# Altium schematic symbol library Cell_Tester.SchLib: 30 symbols
Pins are listed as number, name and electrical type; pins without a type are passive.

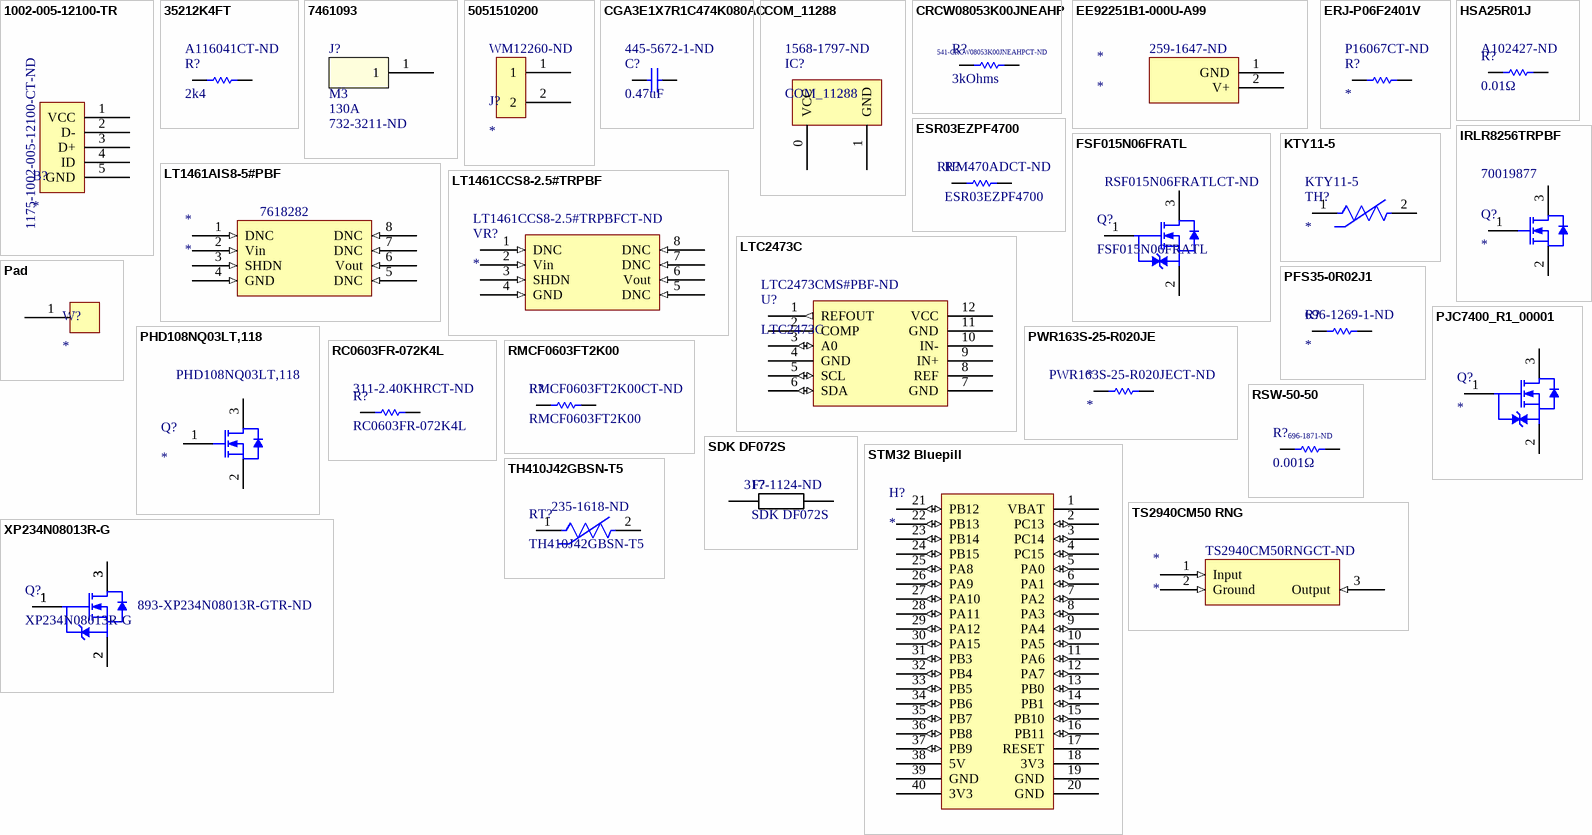
[diagram p0: symbols 1002-005-12100-TR to XP234N08013R-G]

## 1002-005-12100-TR
designator B?  Supplier Part Number 1: 1175-1002-005-12100-CT-ND
Manufacturer: CNC Tech; Manufacturer Part Number: 1002-005-12100-TR; Supplier 1: Digi-Key; RoHS: No; Stock 1: 2839; Pricing 1: 1=0.99000, 10=0.86700, 25=0.81600, 50=0.78200, 100=0.74800, 250=0.68000, 500=0.61200 (USD)
footprint 1002-005-12100-TR
pins: 1 VCC, 2 D-, 3 D+, 4 ID, 5 GND

## 35212K4FT
designator R?, comment 2k4  Supplier Part Number 1: A116041CT-ND
3521 2K4 1% 2W; Manufacturer: TE Connectivity; Manufacturer Part Number: 35212K4FT; Resistance: 2.4kR; Temperature Coefficient: 100ppm/°C; Voltage Rating: 250V; Number of Resistors: 1; Supplier 1: Digi-Key; RoHS: Yes; Category: Chip SMD Resistors; Stock 1: 8714; Pricing 1: 1=0.83000, 10=0.61200, 100=0.35610, 1000=0.19972 (USD); Mount: Surface Mount; Case/Package: 2512; Case Code (Metric): 6432; Case Code (Imperial): 2512; Min Operating Temperature: -55°C; Max Operating Temperature: 155°C; Tolerance: 1%; Packaging: Tape and Reel; Resistor Type: Thick Film,Power resistor; Number of Terminations: 2; Max Power Dissipation: 2W; Power Rating: 2W; Termination: Solder; Voltage Rating (DC): 250V; Features: Automotive AEC-Q200; Series: 3521, CGS; Resistance Tolerance: 1%; Technology: THICK FILM; Length: 6.3mm; Height: 0.55mm; Depth: 3.2mm; RoHS Compliant: Yes; REACH SVHC: No SVHC; ELV: Compliant; ComponentLink1URL: https://datasheet.ciiva.com/25610/0900766b81096b90-25610623.pdf?src-supplier=RSComponents; ComponentLink1Description: https://datasheet.ciiva.com/25610/0900766b81096b90-25610623.pdf?src-supplier=RSComponents; ComponentLink2URL: https://datasheet.ciiva.com/7823/1610601-7823197.pdf?src-supplier=Element14; ComponentLink2Description: https://datasheet.ciiva.com/7823/1610601-7823197.pdf?src-supplier=Element14; ComponentLink3URL: https://datasheet.ciiva.com/46413/1610601-46413085.pdf?src-supplier=Element14; ComponentLink3Description: https://datasheet.ciiva.com/46413/1610601-46413085.pdf?src-supplier=Element14
pins: 1, 2

## 7461093
designator J?  Screw Size: M3  Current Rating: 130A  Supplier Part Number 1: 732-3211-ND  (hidden comment: 7461093)
TERM PWR ELEMENT M3 9 PIN PCB; Manufacturer: Wurth Electronics Inc.; Manufacturer Part Number: 7461093; Terminal Type: Screw Terminal, Power Tap; Termination: Press-Fit; Number of Pins: 9; Mounting Type: Through Hole; Supplier 1: Digi-Key
footprint Wurth Electronics Inc. 7461093
pins: 1

## 5051510200
designator J?  Supplier Part Number 1: WM12260-ND
CONN RCPT HSG 2POS 2.00MM; Manufacturer: Molex; Manufacturer Part Number: 5051510200; Connector Type: Receptacle,Socket; Number of Positions: 2; Pitch: 0.079inch; Supplier 1: Digi-Key; RoHS: Yes; Category: Headers and Wire Housings; Stock 1: 171124; Pricing 1: 1=0.23000, 10=0.18600, 100=0.13400, 1000=0.10488, 2500=0.09614 (USD); Mount: Free Hanging; Color: Black; Packaging: Bulk; Number of Rows: 1; Termination: Crimp; Fastening Type: Latch; ComponentLink1URL: https://www.molex.com/pdm_docs/as/AS-505151-002.pdf?src-supplier=Digi-Key; ComponentLink1Description: https://www.molex.com/pdm_docs/as/AS-505151-002.pdf?src-supplier=Digi-Key
pins: 1, 2

## CGA3E1X7R1C474K080AC
designator C?, comment 0.47uF  Supplier Part Number 1: 445-5672-1-ND
Cap Ceramic 0.47uF 16V X7R 10% SMD 0603 125°C Paper/ Plastic T/R; Manufacturer: TDK; Manufacturer Part Number: CGA3E1X7R1C474K080AC; Capacitance: 470nF; Supplier 1: Digi-Key; RoHS: Yes; Category: Ceramic Capacitors; Stock 1: 205813; Pricing 1: 1=0.16000, 10=0.11200, 50=0.06360, 100=0.05260, 500=0.03690, 1000=0.03055 (USD); Mount: Surface Mount; Case/Package: 0603; Case Code (Metric): 1608; Case Code (Imperial): 0603; Weight: 7.1E-05oz; Min Operating Temperature: -55°C; Max Operating Temperature: 125°C; Tolerance: 10%; Dielectric: X7R; Packaging: Tape and Reel; Voltage Rating: 16V; Voltage Rating (DC): 16V; Termination: SMD/SMT; Series: CGA; Package Quantity: 1; Resistor Type: Ceramic; Construction: Flat; Length: 1.6mm; Width: 0.031inch; Height: 0.8mm; Thickness: 0.035inch; Depth: 0.8mm; Ratings: AEC-Q200; Radiation Hardening: No; Lead Free: Lead Free; RoHS Compliant: Yes; REACH SVHC: No SVHC; ComponentLink1URL: https://datasheet.ciiva.com/24218/cga3e1x7r1c474k080ac-265756-24218393.pdf?src-supplier=Mouser; ComponentLink1Description: https://datasheet.ciiva.com/24218/cga3e1x7r1c474k080ac-265756-24218393.pdf?src-supplier=Mouser
pins: 1, 2

## COM_11288
designator IC?  Supplier Part Number 1: 1568-1797-ND
Heating Pad 5VDC 750MA 5X10CM; Manufacturer: SparkFun; Manufacturer Part Number: COM-11288; Supplier 1: Digi-Key; RoHS: No; Stock 1: 135; Pricing 1: 1=3.95000 (USD); ComponentLink1URL: https://media.digikey.com/pdf/Data%20Sheets/Sparkfun%20PDFs/COM-11288_Web.pdf?src-supplier=Digi-Key; ComponentLink1Description: https://media.digikey.com/pdf/Data%20Sheets/Sparkfun%20PDFs/COM-11288_Web.pdf?src-supplier=Digi-Key
footprint Heater
pins: 0 VCC, 1 GND

## CRCW08053K00JNEAHP
designator R?, comment 3kOhms  Supplier Part Number 1: 541-CRCW08053K00JNEAHPCT-ND
Res Thkflm 0805-HP 3K0 Ohm 5% 200 ET1 E3 SMD; Manufacturer: Vishay Dale; Manufacturer Part Number: CRCW08053K00JNEAHP; Resistance: 3kR; Max Power Dissipation: 500mW; Temperature Coefficient: 200ppm/°C; Supplier 1: Digi-Key; RoHS: Yes; Category: Chip SMD Resistors; Stock 1: 4037; Pricing 1: 1=0.24000, 10=0.20200, 100=0.07910, 1000=0.03312, 2500=0.03036 (USD); Case/Package: 0805; Min Operating Temperature: -55°C; Max Operating Temperature: 155°C; Package Quantity: 5000; Tolerance: 5%; Packaging: Tape and Reel; Resistor Type: Thick Film; Number of Terminations: 2; Features: Automotive AEC-Q200; Series: CRCW-HP; Length: 0.079inch; Width: 0.049inch; Height: 0.024inch; Lead Free: Lead Free; RoHS Compliant: Yes; ComponentLink1URL: https://datasheet.ciiva.com/2580/crcwhpe3-2580897.pdf?src-supplier=Digi-Key; ComponentLink1Description: https://datasheet.ciiva.com/2580/crcwhpe3-2580897.pdf?src-supplier=Digi-Key
footprint Model Name (Footprint not found)
pins: 1, 2

## EE92251B1-000U-A99
designator *  Supplier Part Number 1: 259-1647-ND
DC Fan Axial Ball Bearing 12V 51.5CFM 34dB 92 X 92 X 25mm High Speed; Manufacturer: Sunon; Manufacturer Part Number: EE92251B1-000U-A99; Current Rating: 165mA; Noise Level: ["34dBA"]; Noise: 34dBA; Power Consumption: 2W; Max Power Dissipation: 1.98W; RPM: 3000RPM; Life (Hours): 50000Hour; Approvals: UL,CE,TUV; Supplier 1: Digi-Key; RoHS: Yes; Category: Enclosures; Stock 1: 720; Pricing 1: 1=8.05000, 10=7.68700, 25=7.22880, 50=6.95440, 100=6.40540, 250=5.99364, 500=5.90214 (USD); Case/Package: Axial; Weight: 0.207lb; Material: Plastic; Housing Material: Thermoplastic; Min Operating Temperature: 14°C; Max Operating Temperature: 158°C; Package Quantity: 30; Airflow: 51.5CFM; Termination: 2 Wire Leads; Bearing Type: Ball; Series: DR MagLev®; Noise (dB): 34dB; Width: 25mm; Lead Free: Lead Free; Flammability Rating: UL94 V-0; ComponentLink1URL: https://datasheet.ciiva.com/18514/ee9225-u-18514966.pdf?src-supplier=Digi-Key; ComponentLink1Description: https://datasheet.ciiva.com/18514/ee9225-u-18514966.pdf?src-supplier=Digi-Key; ComponentLink2URL: https://datasheet.ciiva.com/3339/me9225-eng-tds-3339837.pdf?src-supplier=Distrelec; ComponentLink2Description: https://datasheet.ciiva.com/3339/me9225-eng-tds-3339837.pdf?src-supplier=Distrelec
pins: 1 GND, 2 V+

## ERJ-P06F2401V
designator R?  Supplier Part Number 1: P16067CT-ND
PANASONIC   ERJP06F2401V   RESISTOR, ERJP, 2.4 KOHM, 0805 0.5W, 1%; Manufacturer Part Number: ERJ-P06F2401V; Power Rating: 500mW; Resistance: 2.4kR; Voltage Rating: 150V; Temperature Coefficient: 100ppm/°C; Supplier 1: Digi-Key; Manufacturer: Panasonic; RoHS: Yes; Category: Chip SMD Resistors; Stock 1: 27280; Pricing 1: 1=0.18000, 10=0.15400, 100=0.06030, 1000=0.02525, 2500=0.02315 (USD); Mount: Surface Mount; Case/Package: 0805; Number of Pins: 2; Case Code (Imperial): 0805; Case Code (Metric): 2012; Min Operating Temperature: -55°C; Max Operating Temperature: 155°C; Tolerance: 1%; Packaging: Tape and Reel; Package Quantity: 5000; Resistor Type: Thick Film; Voltage Rating (DC): 150V; Termination: Tab; Length: 2mm; Width: 1.2mm; Height: 0.6mm; Depth: 1.25mm; REACH SVHC: No SVHC; Military Standard: Not; Lead Free: Lead Free; RoHS Compliant: Yes; ComponentLink1URL: https://datasheet.ciiva.com/11812/0900766b812cb812-11812400.pdf?src-supplier=RSComponents; ComponentLink1Description: https://datasheet.ciiva.com/11812/0900766b812cb812-11812400.pdf?src-supplier=RSComponents; ComponentLink2URL: https://datasheet.ciiva.com/24025/aoa0000ce4-64075-24025445.pdf?src-supplier=Mouser; ComponentLink2Description: https://datasheet.ciiva.com/24025/aoa0000ce4-64075-24025445.pdf?src-supplier=Mouser; ComponentLink3URL: https://datasheet.ciiva.com/7891/1801181-7891421.pdf?src-supplier=Element14; ComponentLink3Description: https://datasheet.ciiva.com/7891/1801181-7891421.pdf?src-supplier=Element14; ComponentLink4URL: https://datasheet.ciiva.com/22699/1801181-22699117.pdf?src-supplier=Element14; ComponentLink4Description: https://datasheet.ciiva.com/22699/1801181-22699117.pdf?src-supplier=Element14
pins: 1, 2

## ESR03EZPF4700
designator R?  Supplier Part Number 1: RHM470ADCT-ND
Res Thick Film 0603 470 Ohm 1% 1/4W ±100ppm/°C Molded SMD SMD Paper T/R; Manufacturer: Rohm; Resistance: 470Ω; Power Rating: 250mW; Supplier 1: Digi-Key; Manufacturer Part Number: ESR03EZPF4700; RoHS: Yes; Category: Chip SMD Resistors; Stock 1: 2394; Pricing 1: 1=0.13000, 10=0.12000, 100=0.04600, 1000=0.02024, 2500=0.01748 (USD); Case/Package: 0603; Case Code (Metric): 1608; Case Code (Imperial): 0603; Size Code: 0603; Min Operating Temperature: -55°C; Max Operating Temperature: 155°C; Tolerance: 1%; Packaging: Tape and Reel; Resistor Type: Thick Film; Temperature Coefficient: 100ppm/°C; Package Quantity: 1; Number of Terminations: 2; Max Power Dissipation: 250mW; Features: Automotive AEC-Q200; Series: ESR; Length: 0.063inch; Width: 0.031inch; Height: 0.022inch; Lead Free: Lead Free; RoHS Compliant: Yes; ComponentLink1URL: https://datasheet.ciiva.com/2516/esr-2516130.pdf?src-supplier=Digi-Key; ComponentLink1Description: https://datasheet.ciiva.com/2516/esr-2516130.pdf?src-supplier=Digi-Key; ComponentLink2URL: https://datasheet.ciiva.com/2516/esr-2516131.pdf?src-supplier=Digi-Key; ComponentLink2Description: https://datasheet.ciiva.com/2516/esr-2516131.pdf?src-supplier=Digi-Key; ComponentLink3URL: https://datasheet.ciiva.com/2516/esr-2516132.pdf?src-supplier=Digi-Key; ComponentLink3Description: https://datasheet.ciiva.com/2516/esr-2516132.pdf?src-supplier=Digi-Key; ComponentLink4URL: https://datasheet.ciiva.com/16439/esr-16439978.pdf?src-supplier=Future+Electronics; ComponentLink4Description: https://datasheet.ciiva.com/16439/esr-16439978.pdf?src-supplier=Future+Electronics
pins: 1, 2

## FSF015N06FRATL
designator Q?  Supplier Part Number 1: RSF015N06FRATLCT-ND
Transistor Mosfet N-ch 60V 1.5A 3-PIN Tumt T/r; Manufacturer: Rohm; Manufacturer Part Number: RSF015N06FRATL; Rds On Max: 290mR; Input Capacitance: 110pF; Max Power Dissipation: 800mW; Supplier 1: Digi-Key; RoHS: Yes; Category: MOSFETs; Stock 1: 1795; Pricing 1: 1=0.38000, 10=0.31000, 100=0.21120, 500=0.15840, 1000=0.11880 (USD); Mount: Surface Mount; Case/Package: SMD/SMT; Packaging: Tape and Reel; Drain to Source Voltage (Vdss): 60V; Continuous Drain Current (ID): 1.5A; ComponentLink1URL: http://rohmfs.rohm.com/en/products/databook/datasheet/discrete/transistor/mosfet/rsf015n06fra-e.pdf?src-supplier=Digi-Key; ComponentLink1Description: http://rohmfs.rohm.com/en/products/databook/datasheet/discrete/transistor/mosfet/rsf015n06fra-e.pdf?src-supplier=Digi-Key
footprint RTF016N05FRATL
footprint RTF016N05FRATL
pins: 1 G, 2 S, 3 D

## HSA25R01J
designator R?, comment 0.01Ω  Supplier Part Number 1: A102427-ND
Res Wirewound 0.01 Ohm 5% 25W ±50ppm/C Aluminum Housed AXL Chassis Mount Loose/Tray; Manufacturer: TE Connectivity; Manufacturer Part Number: HSA25R01J; Resistance: 10mR; Temperature Coefficient: 50ppm/°C; Lead/Base Style: Fixed; Voltage Rating: 550V; Number of Resistors: 1; Voltage Rating (DC): 500V; Supplier 1: Digi-Key; RoHS: Yes; Category: Wirewound Resistors; Stock 1: 69; Pricing 1: 1=4.12000, 10=3.67600, 25=3.45520, 50=3.16120, 100=2.72010, 250=2.35256, 500=2.13200, 1000=1.95555 (USD); Mount: Chassis Mount; Case/Package: Aluminum; Housing Material: Aluminium; Min Operating Temperature: -55°C; Max Operating Temperature: 200°C; Tolerance: 5%; Power Rating: 25W; Resistor Type: Wirewound,Power resistor; Packaging: Tray; Package Quantity: 100; Series: HS, CGS; Max Power Dissipation: 25W; Termination: Solder; Number of Terminations: 2; Technology: WIRE WOUND; Length: 29mm; Width: 28mm; Height: 15mm; RoHS Compliant: Yes; ELV: Compliant; ComponentLink1URL: https://datasheet.ciiva.com/11805/0900766b80ef190c-11805473.pdf?src-supplier=RSComponents; ComponentLink1Description: https://datasheet.ciiva.com/11805/0900766b80ef190c-11805473.pdf?src-supplier=RSComponents; ComponentLink2URL: https://datasheet.ciiva.com/12694/eng-ds-1773035-c-12694934.pdf?src-supplier=Mouser; ComponentLink2Description: https://datasheet.ciiva.com/12694/eng-ds-1773035-c-12694934.pdf?src-supplier=Mouser
pins: 1, 2

## IRLR8256TRPBF
designator Q?  Supplier Part Number 1: 70019877
Single N-Channel 25 V 5.7 mOhm 15 nC HEXFET® Power Mosfet - TO-252-3; Manufacturer: International Rectifier; Manufacturer Part Number: IRLR8256TRPBF; Rise Time: 46ns; Continuous Drain Current (ID): 81A; Gate to Source Voltage (Vgs): 20V; Turn-On Delay Time: 9.7ns; Turn-Off Delay Time: 12ns; Fall Time: 8.5ns; Rds On Max: 5.7mR; Input Capacitance: 1.47nF; Drain to Source Breakdown Voltage: 25V; Drain to Source Resistance: 8.5mR; Power Dissipation: 63W; Supplier 1: Allied Electronics; RoHS: Yes; Category: MOSFETs; Mount: Surface Mount; Case/Package: TO-252-3; Number of Pins: 3; Min Operating Temperature: -55°C; Max Operating Temperature: 175°C; Packaging: Tape and Reel; Package Quantity: 1; Drain to Source Voltage (Vdss): 25V; Max Power Dissipation: 63W; Series: HEXFET®; Length: 6.73mm; Width: 6.22mm; Height: 2.39mm; Radiation Hardening: No; ComponentLink1URL: https://datasheet.ciiva.com/6382/irlr8256pbf-6382292.pdf?src-supplier=Digi-Key; ComponentLink1Description: https://datasheet.ciiva.com/6382/irlr8256pbf-6382292.pdf?src-supplier=Digi-Key; ComponentLink2URL: https://datasheet.ciiva.com/26791/irlr8256trpbf-26791913.pdf?src-supplier=IIIC; ComponentLink2Description: https://datasheet.ciiva.com/26791/irlr8256trpbf-26791913.pdf?src-supplier=IIIC; ComponentLink3URL: https://datasheet.ciiva.com/6382/irlr8256pbf-6382297.pdf?src-supplier=Digi-Key; ComponentLink3Description: https://datasheet.ciiva.com/6382/irlr8256pbf-6382297.pdf?src-supplier=Digi-Key; ComponentLink4URL: https://datasheet.ciiva.com/6382/irlr8256pbf-6382295.pdf?src-supplier=Digi-Key; ComponentLink4Description: https://datasheet.ciiva.com/6382/irlr8256pbf-6382295.pdf?src-supplier=Digi-Key; ComponentLink5URL: https://datasheet.ciiva.com/17318/irlr8256pbf-17318028.pdf?src-supplier=Avnet+Europe; ComponentLink5Description: https://datasheet.ciiva.com/17318/irlr8256pbf-17318028.pdf?src-supplier=Avnet+Europe
pins: 1 G, 2 S, 3 D

## KTY11-5
designator TH?  Supplier Part Number 1: KTY11-5
Temp Sensor Analog 2-Pin TO-92 Mini; Manufacturer: Infineon; Max Supply Voltage: 25V; Tolerance: 3%; Connector Type: Solder; Accuracy: 1%; Resistance: 1.97kR; Supplier 1: Avnet; Manufacturer Part Number: KTY11-5; RoHS: Yes; Category: Temperature and Humidity Sensors; Stock 1: 753257; Pricing 1: 1137=0.31884, 1200=0.30800, 2300=0.29920, 5700=0.29260, 12000=0.28160, 57000=0.27445, 120000=0.26730 (USD); Mount: Through Hole; Case/Package: TO-226-2; Number of Pins: 2; Min Operating Temperature: -50°C; Max Operating Temperature: 150°C; Output Type: Analog; Package Quantity: 1000; Packaging: Bulk; Resistance Tolerance: 3%; Lead Free: Lead Free; RoHS Compliant: Yes; ComponentLink1URL: https://datasheet.ciiva.com/26328/153667-da-01-en-temperatur-sensor-kty11-5-q62705-k0245-26328177.pdf?src-supplier=Conrad; ComponentLink1Description: https://datasheet.ciiva.com/26328/153667-da-01-en-temperatur-sensor-kty11-5-q62705-k0245-26328177.pdf?src-supplier=Conrad; ComponentLink2URL: https://datasheet.ciiva.com/2852/kt-kty-2852373.pdf?src-supplier=Digi-Key; ComponentLink2Description: https://datasheet.ciiva.com/2852/kt-kty-2852373.pdf?src-supplier=Digi-Key
pins: 1, 2

## LT1461AIS8-5#PBF
designator *  Supplier Part Number 1: 7618282
5.0V Micropower Precision Low Dropout Series Voltage Regulator SOIC-8; Manufacturer: Analog Devices / Linear Technology; Manufacturer Part Number: LT1461AIS8-5#PBF; Output Current: 100mA; Tolerance: 0.04%; Max Input Voltage: 20V; Output Voltage: 5V; Temperature Coefficient: 3ppm/°C; Quiescent Current: 50uA; Reference Type: Series,Fixed; Number of Channels: 1; Supplier 1: RSComponents; RoHS: Yes; Category: Voltage References; Stock 1: 1; Pricing 1: 1=11.46000, 5=10.90300, 25=9.11800, 50=8.89500 (USD); Mount: Surface Mount; Case/Package: SOIC; Number of Pins: 8; Min Operating Temperature: -40°C; Max Operating Temperature: 85°C; Package Quantity: 100; Packaging: Rail/Tube; Max Output Current: 100mA; Reference Voltage: 5V; Max Output Voltage: 5V; Series: -; Length: 5mm; Width: 3.988mm; Height: 1.498mm; Radiation Hardening: No; REACH SVHC: No SVHC; Lead Free: Lead Free; RoHS Compliant: Yes; ComponentLink1URL: https://datasheet.ciiva.com/19477/1736520-19477693.pdf?src-supplier=Jameco; ComponentLink1Description: https://datasheet.ciiva.com/19477/1736520-19477693.pdf?src-supplier=Jameco; ComponentLink2URL: https://datasheet.ciiva.com/26889/lt1461ais8-5-pbf-26889203.pdf?src-supplier=IIIC; ComponentLink2Description: https://datasheet.ciiva.com/26889/lt1461ais8-5-pbf-26889203.pdf?src-supplier=IIIC; ComponentLink3URL: https://datasheet.ciiva.com/5781/1599656-5781678.pdf?src-supplier=Farnell; ComponentLink3Description: https://datasheet.ciiva.com/5781/1599656-5781678.pdf?src-supplier=Farnell; ComponentLink4URL: https://datasheet.ciiva.com/2006/1342-2006103.pdf?src-supplier=Digi-Key; ComponentLink4Description: https://datasheet.ciiva.com/2006/1342-2006103.pdf?src-supplier=Digi-Key; ComponentLink5URL: https://datasheet.ciiva.com/15148/getdatasheetpartid-82019-15148493.pdf?src-supplier=Verical; ComponentLink5Description: https://datasheet.ciiva.com/15148/getdatasheetpartid-82019-15148493.pdf?src-supplier=Verical; ComponentLink6URL: https://datasheet.ciiva.com/1173/1599656-1173859.pdf?src-supplier=Element14; ComponentLink6Description: https://datasheet.ciiva.com/1173/1599656-1173859.pdf?src-supplier=Element14
pins: 1 DNC (in), 2 Vin (in), 3 SHDN (in), 4 GND (in), 5 DNC (in), 6 Vout (in), 7 DNC (in), 8 DNC (in)

## LT1461CCS8-2.5#TRPBF
designator VR?  Supplier Part Number 1: LT1461CCS8-2.5#TRPBFCT-ND
LT1461 - Micropower Precision Low Dropout Series Voltage Reference Family; Manufacturer: Analog Devices / Linear Technology; Manufacturer Part Number: LT1461CCS8-2.5#TRPBF; Tolerance: 0.08%; Min Output Voltage: 2.5V; Output Current: 100mA; Temperature Coefficient: 12ppm/°C; Operating Supply Current: 70uA; Quiescent Current: 50uA; Output Type: Fixed; Supplier 1: Digi-Key; RoHS: Yes; Category: Voltage References; Stock 1: 1; Pricing 1: 1=4.78000, 10=4.28900, 25=4.05440, 100=3.51390, 250=3.33368, 500=2.99132, 1000=2.80500 (USD); Mount: Surface Mount; Case/Package: SOIC; Min Operating Temperature: 0°C; Max Operating Temperature: 70°C; Package Quantity: 2500; Packaging: Tape and Reel; Output Voltage: 2.5V; Reference Type: Series; Series: -; Lead Free: Lead Free; RoHS Compliant: Yes; ComponentLink1URL: https://datasheet.ciiva.com/2010/1342-2010067.pdf?src-supplier=Digi-Key; ComponentLink1Description: https://datasheet.ciiva.com/2010/1342-2010067.pdf?src-supplier=Digi-Key
footprint LT1461CCS8-2.5#TRPBF
pins: 1 DNC (in), 2 Vin (in), 3 SHDN (in), 4 GND (in), 5 DNC (in), 6 Vout (in), 7 DNC (in), 8 DNC (in)

## LTC2473C
designator U?  Supplier Part Number 1: LTC2473CMS#PBF-ND
Dual ADC Delta-Sigma 1ksps 16-bit Serial 12-Pin MSOP; Manufacturer: Analog Devices / Linear Technology; Manufacturer Part Number: LTC2473CMS#PBF; Max Supply Voltage: 5.5V; Min Supply Voltage: 2.7V; Interface: I2C,Serial; Number of Bits: 16; Sampling Rate: 1KS/s; Number of Converters: 2; Resolution: 16b; Polarity: Bipolar; Integral Nonlinearity (INL): 12LSB; Supply Type: Single; Nominal Supply Current: 3.5mA; Reference Voltage: 1.25V; Supplier 1: Digi-Key; RoHS: Yes; Category: Analog to Digital Converters (ADCs); Stock 1: 461; Pricing 1: 1=4.55000, 10=4.08700, 25=3.86360, 100=3.34850, 250=3.17680, 500=2.85056, 1000=2.67300 (USD); Mount: Surface Mount; Case/Package: MSOP; Number of Pins: 12; Min Operating Temperature: 0°C; Max Operating Temperature: 70°C; Package Quantity: 37; Packaging: Rail/Tube; Number of Elements: 2; RoHS Compliant: Yes; REACH SVHC: No SVHC; ComponentLink1URL: https://datasheet.ciiva.com/14171/ltc2471-73-eng-ds-14171149.pdf?src-supplier=Distrelec; ComponentLink1Description: https://datasheet.ciiva.com/14171/ltc2471-73-eng-ds-14171149.pdf?src-supplier=Distrelec; ComponentLink2URL: https://datasheet.ciiva.com/46423/1814531-46423783.pdf?src-supplier=Element14; ComponentLink2Description: https://datasheet.ciiva.com/46423/1814531-46423783.pdf?src-supplier=Element14
footprint LTC2473
footprint LTC2473
pins: 1 REFOUT (out), 2 COMP, 3 A0 (io), 4 GND (power), 5 SCL (io), 6 SDA (io), 7 GND (power), 8 REF (power), 9 IN+ (power), 10 IN- (power), 11 GND (power), 12 VCC (power)

## Pad
designator W?
footprint Pad
pins: 1

## PFS35-0R02J1
designator R?  Supplier Part Number 1: 696-1269-1-ND
RES 0.02 OHM 35W 5% TO-263 SMD; Manufacturer: Riedon; Manufacturer Part Number: PFS35-0R02J1; Resistance: 20mR; Temperature Coefficient: 250ppm/°C; Supplier 1: Digi-Key; RoHS: Yes; Category: Chip SMD Resistors; Stock 1: 66; Pricing 1: 1=3.81000, 10=3.40200, 100=2.51750 (USD); Case/Package: TO-263-3; Min Operating Temperature: -55°C; Max Operating Temperature: 155°C; Package Quantity: 250; Packaging: Tape and Reel; Tolerance: 5%; Resistor Type: Thin Film; Number of Terminations: 2; Max Power Dissipation: 35W; Series: PFS35; Length: 0.406inch; Width: 0.398inch; Height: 0.185inch; ComponentLink1URL: https://datasheet.ciiva.com/2486/pfs35-2486719.pdf?src-supplier=Digi-Key; ComponentLink1Description: https://datasheet.ciiva.com/2486/pfs35-2486719.pdf?src-supplier=Digi-Key; ComponentLink2URL: https://datasheet.ciiva.com/2486/pfs35-2486720.pdf?src-supplier=Digi-Key; ComponentLink2Description: https://datasheet.ciiva.com/2486/pfs35-2486720.pdf?src-supplier=Digi-Key; ComponentLink3URL: https://datasheet.ciiva.com/18597/pfs35-18597801.pdf?src-supplier=Digi-Key; ComponentLink3Description: https://datasheet.ciiva.com/18597/pfs35-18597801.pdf?src-supplier=Digi-Key; ComponentLink4URL: https://datasheet.ciiva.com/2486/pfs35-2486718.pdf?src-supplier=Digi-Key; ComponentLink4Description: https://datasheet.ciiva.com/2486/pfs35-2486718.pdf?src-supplier=Digi-Key; ComponentLink5URL: https://datasheet.ciiva.com/18597/pfs35-18597802.pdf?src-supplier=Digi-Key; ComponentLink5Description: https://datasheet.ciiva.com/18597/pfs35-18597802.pdf?src-supplier=Digi-Key; ComponentLink6URL: https://datasheet.ciiva.com/18597/pfs35-18597803.pdf?src-supplier=Digi-Key; ComponentLink6Description: https://datasheet.ciiva.com/18597/pfs35-18597803.pdf?src-supplier=Digi-Key
footprint PFS35-0R02J1
pins: 1, 2

## PHD108NQ03LT,118
designator Q?  Supplier Part Number 1: PHD108NQ03LT,118
MOSFET TAPE13 PWR-MOS; Manufacturer: NXP Semiconductors; Drain to Source Voltage (Vdss): 25V; Continuous Drain Current (ID): 75A; Max Power Dissipation: 187W; Rise Time: 38ns; Nominal Vgs: 1.5V; Rds On Max: 6mR; Input Capacitance: 1.375nF; Turn-Off Delay Time: 32ns; Gate to Source Voltage (Vgs): 20V; Turn-On Delay Time: 15ns; Fall Time: 25ns; Element Configuration: Single; Polarity: N-CHANNEL; Supplier 1: Avnet; Manufacturer Part Number: PHD108NQ03LT,118; RoHS: Yes; Category: MOSFETs; Stock 1: 1190; Pricing 1: 1069=0.32760, 1100=0.32058, 2200=0.31356, 5400=0.30654, 11000=0.29952, 54000=0.29250, 110000=0.28548 (USD); Mount: Surface Mount; Case/Package: SOT-428; Number of Pins: 3; Min Operating Temperature: -55°C; Max Operating Temperature: 175°C; Packaging: Tape and Reel; Package Quantity: 2500; Dual Supply Voltage: 25V; Drain to Source Breakdown Voltage: 25V; Drain to Source Resistance: 6mR; Power Dissipation: 187W; Threshold Voltage: 1.5V; Termination: SMD/SMT; Series: TrenchMOS™; Radiation Hardening: No; REACH SVHC: No SVHC; ComponentLink1URL: https://datasheet.ciiva.com/11165/phd108nq03lt-11165875.pdf?src-supplier=Avnet; ComponentLink1Description: https://datasheet.ciiva.com/11165/phd108nq03lt-11165875.pdf?src-supplier=Avnet; ComponentLink2URL: https://datasheet.ciiva.com/4725/phd108nq03lt-117185-4725839.pdf?src-supplier=Mouser; ComponentLink2Description: https://datasheet.ciiva.com/4725/phd108nq03lt-117185-4725839.pdf?src-supplier=Mouser; ComponentLink3URL: https://datasheet.ciiva.com/22655/667348-22655560.pdf?src-supplier=Element14; ComponentLink3Description: https://datasheet.ciiva.com/22655/667348-22655560.pdf?src-supplier=Element14
pins: 1 G, 2 S, 3 D

## PJC7400_R1_00001
designator Q?
SOT-323, Mosfet; Manufacturer: Pan Jit; Manufacturer Part Number: PJC7400_R1_00001; Supplier 1: Digi-Key; RoHS: No; Category: Uncategorized; Stock 1: 2469; Pricing 1: 1=0.47000, 10=0.35000, 100=0.21820, 500=0.14930, 1000=0.11484 (USD)
pins: 1 G, 2 S, 3 D

## PWR163S-25-R020JE
designator *  Supplier Part Number 1: PWR163S-25-R020JECT-ND
PWR163 Series Thick Film Power Resistor 20m Ohm 5% 25 W 100 ppm/°C 2-Pin D2-PAK T/R; Manufacturer: Bourns; Manufacturer Part Number: PWR163S-25-R020JE; Resistance: 20mR; Max Power Dissipation: 25W; Supplier 1: Digi-Key; RoHS: No; Category: Chip SMD Resistors; Stock 1: 14; Pricing 1: 1=2.94000, 10=2.62500, 25=2.46760, 50=2.25760, 100=1.94250, 250=1.68000 (USD); Case/Package: TO-252-3; Package Quantity: 500; Packaging: Rail/Tube; Tolerance: 5%; Resistor Type: Thick Film; Number of Terminations: 2; Temperature Coefficient: 100ppm/°C; Length: 0.32inch; Width: 0.324inch; Height: 0.11inch; ComponentLink1URL: http://www.bourns.com/docs/Product-Datasheets/PWR163.pdf?src-supplier=Digi-Key; ComponentLink1Description: http://www.bourns.com/docs/Product-Datasheets/PWR163.pdf?src-supplier=Digi-Key
footprint PWR163S-25-R020JE
pins: 1, 2

## RC0603FR-072K4L
designator R?  Supplier Part Number 1: 311-2.40KHRCT-ND
Res Thick Film 0603 2.4K Ohm 1% 0.1W(1/10W) ±100ppm/C Pad SMD T/R; Manufacturer: Yageo; Resistance: 2.4kΩ; Temperature Coefficient: 100ppm/°C; Voltage Rating (DC): 50V; Power Rating: 100mW; Working Voltage: 75V; Supplier 1: Digi-Key; Manufacturer Part Number: RC0603FR-072K4L; RoHS: Yes; Category: Chip SMD Resistors; Stock 1: 280766; Pricing 1: 1=0.10000, 10=0.02400, 100=0.00970, 1000=0.00436, 2500=0.00378 (USD); Case/Package: 0603; Number of Pins: 2; Case Code (Metric): 1608; Case Code (Imperial): 0603; Min Operating Temperature: -55°C; Max Operating Temperature: 155°C; Tolerance: 1%; Resistor Type: Thick Film; Packaging: Tape and Reel; Voltage Rating: 50V; Package Quantity: 1; Number of Terminations: 2; Termination: SMD/SMT; Max Power Dissipation: 100mW; Features: Moisture Resistant; Series: RC; Resistance Tolerance: 1%; Construction: Rectangular; Technology: THICK FILM; Length: 1.6mm; Width: 0.031inch; Height: 0.45mm; Depth: 0.8mm; Lead Free: Lead Free; REACH SVHC: No SVHC; Military Standard: Not; RoHS Compliant: Yes; ComponentLink1URL: https://datasheet.ciiva.com/11808/0900766b80f96399-11808124.pdf?src-supplier=RSComponents; ComponentLink1Description: https://datasheet.ciiva.com/11808/0900766b80f96399-11808124.pdf?src-supplier=RSComponents; ComponentLink2URL: https://datasheet.ciiva.com/2454/pyu-r-int-thick-7-2454294.pdf?src-supplier=Digi-Key; ComponentLink2Description: https://datasheet.ciiva.com/2454/pyu-r-int-thick-7-2454294.pdf?src-supplier=Digi-Key; ComponentLink3URL: https://datasheet.ciiva.com/2454/pyu-r-int-thick-7-2454295.pdf?src-supplier=Digi-Key; ComponentLink3Description: https://datasheet.ciiva.com/2454/pyu-r-int-thick-7-2454295.pdf?src-supplier=Digi-Key; ComponentLink4URL: https://datasheet.ciiva.com/2454/pyu-r-int-thick-7-2454296.pdf?src-supplier=Digi-Key; ComponentLink4Description: https://datasheet.ciiva.com/2454/pyu-r-int-thick-7-2454296.pdf?src-supplier=Digi-Key; ComponentLink5URL: https://datasheet.ciiva.com/5558/rc0603-272842-5558296.pdf?src-supplier=Mouser; ComponentLink5Description: https://datasheet.ciiva.com/5558/rc0603-272842-5558296.pdf?src-supplier=Mouser; ComponentLink6URL: https://datasheet.ciiva.com/15189/getdatasheetpartid-327915-15189686.pdf?src-supplier=Verical; ComponentLink6Description: https://datasheet.ciiva.com/15189/getdatasheetpartid-327915-15189686.pdf?src-supplier=Verical
pins: 1, 2

## RMCF0603FT2K00
designator R?  Supplier Part Number 1: RMCF0603FT2K00CT-ND
Res Thick Film 0603 2K Ohm 1% 0.1W(1/10W) ±100ppm/C Pad SMD Automotive T/R; Manufacturer: Stackpole Electronics; Resistance: 2kΩ; Power Rating: 100mW; Temperature Coefficient: 100ppm/°C; Working Voltage: 75V; Supplier 1: Digi-Key; Manufacturer Part Number: RMCF0603FT2K00; RoHS: Yes; Category: Chip SMD Resistors; Stock 1: 61086; Pricing 1: 1=0.10000, 10=0.01700, 100=0.00680, 1000=0.00305, 2500=0.00264 (USD); Mount: Surface Mount; Case/Package: 0603; Case Code (Metric): 1608; Case Code (Imperial): 0603; Contact Plating: Tin,Matte; Min Operating Temperature: -55°C; Max Operating Temperature: 155°C; Tolerance: 1%; Packaging: Tape and Reel; Resistor Type: Thick Film; Number of Terminations: 2; Max Power Dissipation: 100mW; Features: Automotive AEC-Q200; Series: RMCF; Technology: THICK FILM; Construction: Rectangular; Length: 1.55mm; Width: 0.031inch; Height: 0.022inch; Depth: 0.8mm; Radiation Hardening: No; Military Standard: Not; Lead Free: Lead Free; RoHS Compliant: Yes; ComponentLink1URL: https://datasheet.ciiva.com/15193/getdatasheetpartid-362041-15193463.pdf?src-supplier=Verical; ComponentLink1Description: https://datasheet.ciiva.com/15193/getdatasheetpartid-362041-15193463.pdf?src-supplier=Verical
pins: 1, 2

## RSW-50-50
designator R?, comment 0.001Ω  Supplier Part Number 1: 696-1871-ND
Res 0 Ohm Screw Terminal Flange Mount Bulk / https://www.digikey.ca/en/products/detail/riedon/RSW-50-50/9666086; Manufacturer: Riedon; Resistance: 1mR; Tolerance: 0.25%; Temperature Coefficient: 15ppm/°C; Supplier 1: Digi-Key; Manufacturer Part Number: RSW-50-50; RoHS: Yes; Category: Resistors; Stock 1: 92; Pricing 1: 1=12.91000, 10=11.74000, 25=10.56600, 50=9.09840, 100=8.36480, 250=7.92448, 500=7.80710 (USD); Min Operating Temperature: 30°C; Max Operating Temperature: 70°C; Resistor Type: Metal Element; Packaging: Bulk; ComponentLink1URL: https://riedon.com/media/pdf/RSW.pdf?src-supplier=Digi-Key; ComponentLink1Description: https://riedon.com/media/pdf/RSW.pdf?src-supplier=Digi-Key
pins: 1, 2

## SDK DF072S
designator F?  Supplier Part Number 1: 317-1124-ND
TCO 250VAC 10A 72C(162F) AXIAL; Manufacturer: Canadian Thermostats; Manufacturer Part Number: SDFDF072S; Voltage Rating (AC): 250V; Approvals: UL,VDE,CCC,PSE; Supplier 1: Digi-Key; RoHS: Yes; Stock 1: 2690; Pricing 1: 1=1.20000, 5=1.14600, 10=0.99700, 25=0.87600, 50=0.72760, 100=0.61980, 500=0.53900, 1000=0.47162, 5000=0.41772 (USD); Case/Package: Axial; Package Quantity: 1; Current Rating: 10A; Series: SDF; ComponentLink1URL: http://www.cantherm.com/wp-content/uploads/2017/05/SDF_JUNE_2016.pdf?src-supplier=Digi-Key; ComponentLink1Description: http://www.cantherm.com/wp-content/uploads/2017/05/SDF_JUNE_2016.pdf?src-supplier=Digi-Key
footprint SDF DF072S

## STM32 Bluepill
designator H?
pins: 1 VBAT (power), 2 PC13 (io), 3 PC14 (io), 4 PC15 (io), 5 PA0 (io), 6 PA1 (io), 7 PA2 (io), 8 PA3 (io), 9 PA4 (io), 10 PA5 (io), 11 PA6 (io), 12 PA7 (io), 13 PB0 (io), 14 PB1 (io), 15 PB10 (io), 16 PB11 (io), 17 RESET, 18 3V3 (power), 19 GND (power), 20 GND (power), 21 PB12 (io), 22 PB13 (io), 23 PB14 (io), 24 PB15 (io), 25 PA8 (io), 26 PA9 (io), 27 PA10 (io), 28 PA11 (io), 29 PA12 (io), 30 PA15 (io), 31 PB3 (io), 32 PB4 (io), 33 PB5 (io), 34 PB6 (io), 35 PB7 (io), 36 PB8 (io), 37 PB9 (io), 38 5V (power), 39 GND (power), 40 3V3 (power)

## TH410J42GBSN-T5
designator RT?  Supplier Part Number 1: 235-1618-ND
NTC Thermistors; Manufacturer: Amphenol; Supplier 1: Digi-Key; Manufacturer Part Number: TH410J42GBSN-T5; RoHS: No; Category: Thermistors; Stock 1: 3759; Pricing 1: 1=0.75000, 5=0.71000, 10=0.61900, 25=0.54320, 50=0.45140, 100=0.38460, 500=0.33440, 1000=0.29260, 5000=0.25916 (USD); ComponentLink1URL: http://www.mouser.com/ds/2/18/AAS-920-320D-Thermometrics-NTC-Diode-080615-web-850601.pdf?src-supplier=Mouser; ComponentLink1Description: http://www.mouser.com/ds/2/18/AAS-920-320D-Thermometrics-NTC-Diode-080615-web-850601.pdf?src-supplier=Mouser
footprint TH410J42GBSN-T5
pins: 1, 2

## TS2940CM50 RNG
designator *  Supplier Part Number 1: TS2940CM50RNGCT-ND
LDO Regulator Pos 5V 1A 4-Pin(3+Tab) D2PAK T/R; Manufacturer: Taiwan Semiconductor; Manufacturer Part Number: TS2940CM50 RNG; Supplier 1: Digi-Key; RoHS: Yes; Stock 1: 52062; Pricing 1: 1=1.94000, 10=1.74200, 25=1.64320, 100=1.39980, 250=1.31440 (USD); RoHS Compliant: Yes
pins: 1 Input (in), 2 Ground (in), 3 Output (in)

## XP234N08013R-G
designator Q?  Supplier Part Number 1: 893-XP234N08013R-GTR-ND
Manufacturer: Torex; Supplier 1: Digi-Key; Manufacturer Part Number: XP234N08013R-G; RoHS: No; Stock 1: 3000; Pricing 1: 3000=0.08360 (USD)
footprint XP234N08013R-G
footprint XP234N08013R-G
pins: 1 G, 1 G, 1 G, 1 G, 2 S, 2 S, 2 S, 2 S, 3 D, 3 D, 3 D, 3 D